# EAGLE library part WEO012832F (library OLED)
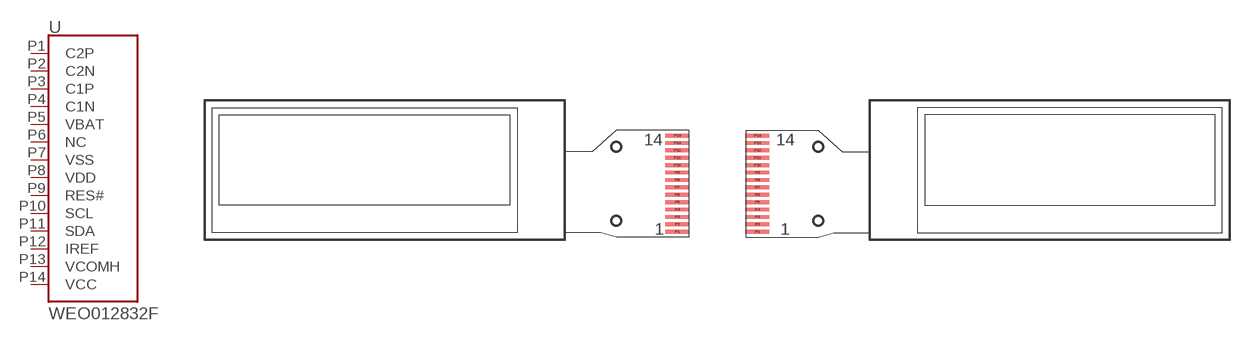
[diagram p1: symbol with the pads of WEO012832F-CONN; footprints WEO012832F-CONN, WEO012832F-REVERSE]

Designator prefix -

## WEO012832F  [WEO012832F-CONN]
P1  C2P
P2  C2N
P3  C1P
P4  C1N
P5  VBAT  pwr
P6  NC  nc
P7  VSS  sup
P8  VDD  pwr
P9  RES#  in
P10  SCL
P11  SDA
P12  IREF
P13  VCOMH  in
P14  VCC  pwr

## WEO012832FREVERSED  [WEO012832F-REVERSE]
Pads as for WEO012832F-CONN

## Footprint WEO012832F-CONN (pad centres in mm)
smd 2 x 0.32: P1 39.515,-10.915; P2 39.515,-10.295; P3 39.515,-9.675; P4 39.515,-9.055; P5 39.515,-8.435; P6 39.515,-7.815; P7 39.515,-7.195; P8 39.515,-6.575; P9 39.515,-5.955; P10 39.515,-5.335; P11 39.515,-4.715; P12 39.515,-4.095; P13 39.515,-3.475; P14 39.515,-2.855

## Footprint WEO012832F-REVERSE (pad centres in mm)
smd 2 x 0.32: P1 1.125,-10.915; P2 1.125,-10.295; P3 1.125,-9.675; P4 1.125,-9.055; P5 1.125,-8.435; P6 1.125,-7.815; P7 1.125,-7.195; P8 1.125,-6.575; P9 1.125,-5.955; P10 1.125,-5.335; P11 1.125,-4.715; P12 1.125,-4.095; P13 1.125,-3.475; P14 1.125,-2.855